# Altium schematic symbol library SMD Magnetics.SchLib: 30 symbols
Pins are listed as number, name and electrical type; pins without a type are passive.

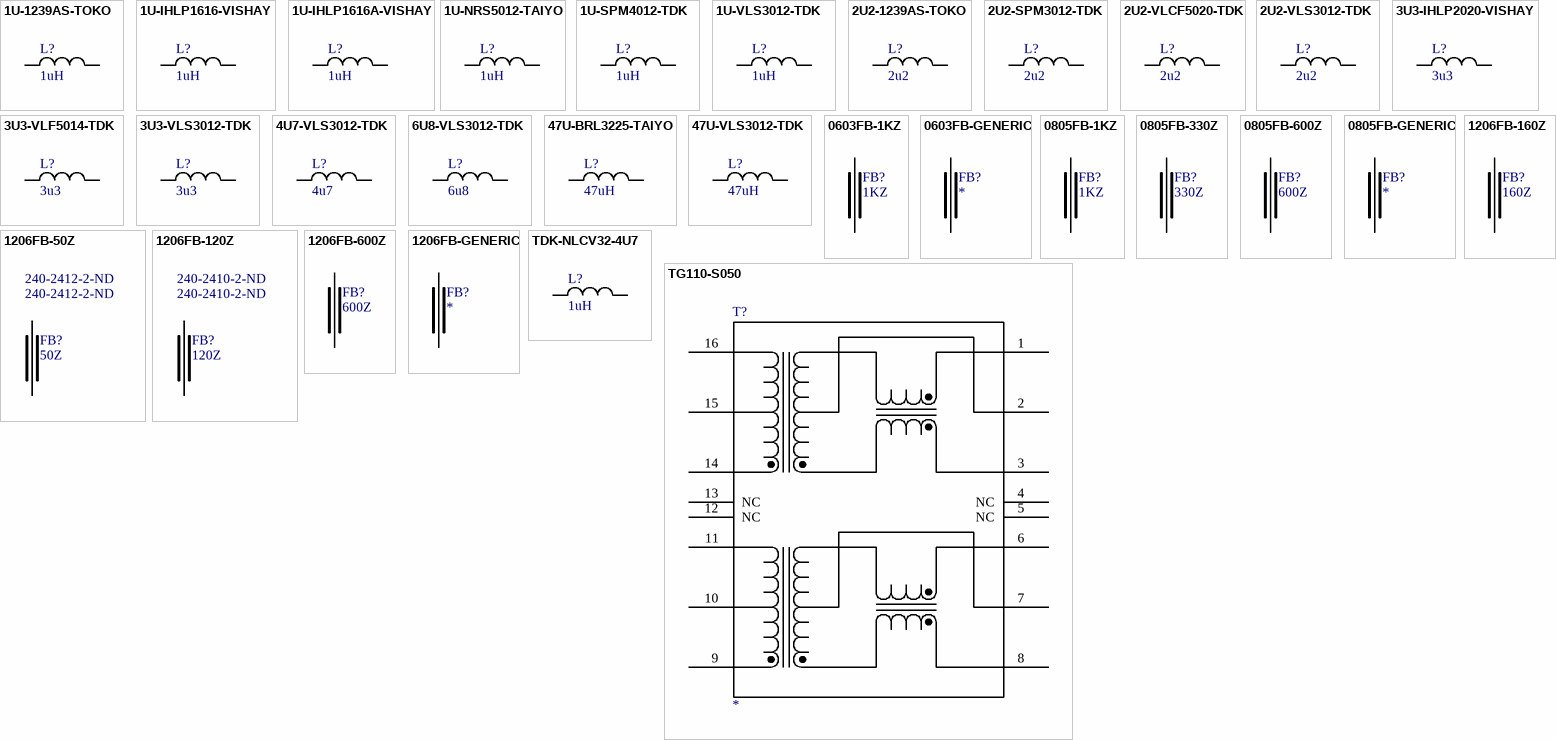
[diagram p0: symbols 1U-1239AS-TOKO to TG110-S050]

## 1U-1239AS-TOKO
designator L?, comment 1uH
1239AS-H-1R0N
footprint TOKO-DFE252012C-1U (TOKO INDUCTOR DFE252012 SERIES)
pins: 1, 2

## 1U-IHLP1616-VISHAY
designator L?, comment 1uH
1U-IHLP1616-VISHAY; Manufacturer Part Number: IHLP1616ABER1R0M01; Manufacturer: Vishay/Dale; Reel: L15; Description: INDUCTOR POWER 1.0UH 4.0A SMD; Supplier 1: Digi-Key; Supplier Part Number 1: 541-1043-2-ND
footprint VISHAY-IHLP1616-GENERIC
pins: 1, 2

## 1U-IHLP1616A-VISHAY
designator L?, comment 1uH
1U-IHLP1616A-VISHAY; Manufacturer Part Number: IHLP1616ABER1R0M11; Manufacturer: Vishay/Dale; Reel: L18; Description: INDUCTOR POWER 1.0UH 4.0A SMD; Supplier 1: Mouser; Supplier Part Number 1: 70-IHLP1616ABER1R0M1
footprint VISHAY-IHLP1616-GENERIC
pins: 1, 2

## 1U-NRS5012-TAIYO
designator L?, comment 1uH
1U-NRS5012
footprint TAIYO-NLS5012-GENERIC (TAIYO YUDEN NLS5012 BODY)
pins: 1, 2

## 1U-SPM4012-TDK
designator L?, comment 1uH
TDK-SPM4012-1U
footprint TDK-SPM4012T
pins: 1, 2

## 1U-VLS3012-TDK
designator L?, comment 1uH
TDK-VLS3012-1U; Manufacturer: TDK Corporation; Manufacturer Part Number: VLS3012T-1R0N2R2; Reel: L8; Description: INDUCTOR POWER 1.0UH 2.2A SMD; Supplier 1: Digi-Key; Supplier Part Number 1: 445-3682-2-ND
footprint TDK-VLS3012-1U
pins: 1, 2

## 2U2-1239AS-TOKO
designator L?, comment 2u2
1239AS-H-2R2N
footprint TOKO-DFE252012C-2U2 (TOKO INDUCTOR DFE252012 SERIES)
pins: 1, 2

## 2U2-SPM3012-TDK
designator L?, comment 2u2
TDK-SPM3012; Description: INDUCTOR POWER 2.2UH 2.1A SMD
footprint TDK-SPM3012T
pins: 1, 2

## 2U2-VLCF5020-TDK
designator L?, comment 2u2
TDK-VLCF5020-2U2; Manufacturer Part Number: VLS3012T-2R2M1R5; Manufacturer: TDK Corporation; Description: INDUCTOR POWER 2.2UH 1.5A SMD; Reel: L9; Supplier 1: Digi-Key; Supplier Part Number 1: 445-3684-2-ND
footprint TDK-VLCF5020-GENERIC
pins: 1, 2

## 2U2-VLS3012-TDK
designator L?, comment 2u2
TDK-VLS3012-2U2; Manufacturer Part Number: VLS3012T-2R2M1R5; Manufacturer: TDK Corporation; Description: INDUCTOR POWER 2.2UH 1.5A SMD; Reel: L9; Supplier 1: Digi-Key; Supplier Part Number 1: 445-3684-2-ND
footprint TDK-VLS3012-2U2
pins: 1, 2

## 3U3-IHLP2020-VISHAY
designator L?, comment 3u3
3U3 IHLP2020 VISHAY; Manufacturer Part Number: IHLP2020CZER3R3M11; Manufacturer: Vishay/Dale; Description: INDUCTOR POWER 3.3UH 5.5A SMD; Supplier 1: Digi-Key; Supplier Part Number 1: 541-1237-2-ND
footprint VISHAY-IHLP2020-GENERIC (Footprint not found)
pins: 1, 2

## 3U3-VLF5014-TDK
designator L?, comment 3u3
3U3 VLF5014 TDK; Reel: L17; Supplier 1: Digi-Key; Supplier Part Number 1: 445-4239-2-ND
footprint TDK-VLF5014-GENERIC
pins: 1, 2

## 3U3-VLS3012-TDK
designator L?, comment 3u3
TDK-VLS3012-3U3; Manufacturer Part Number: VLS3012T-3R3M1R3; Manufacturer: TDK Corporation; Reel: L10; Description: INDUCTOR POWER 3.3UH 1.3A SMD; Supplier 1: Digi-Key; Supplier Part Number 1: 445-3685-2-ND
footprint TDK-VLS3012-3U3 (Footprint not found)
pins: 1, 2

## 4U7-VLS3012-TDK
designator L?, comment 4u7
TDK-VLS3012-4u7; Manufacturer: TDK Corporation; Manufacturer Part Number: VLS3012T-4R7M1R0; Reel: L3; Description: INDUCTOR POWER 4.7UH 1.0A SMD; Supplier 1: Digi-Key; Supplier Part Number 1: 445-3686-6-ND
footprint TDK-VLS3012-4U7 (Footprint not found)
pins: 1, 2

## 6U8-VLS3012-TDK
designator L?, comment 6u8
TDK-VLS3012-6U8; Manufacturer: TDK Corporation; Manufacturer Part Number: VLS3012T-6R8MR90; Reel: L7; Description: INDUCTOR POWER 6.8UH .90A SMD; Supplier 1: Digi-Key; Supplier Part Number 1: 445-3687-2-ND
footprint TDK-VLS3012-6U8 (Footprint not found)
pins: 1, 2

## 47U-BRL3225-TAIYO
designator L?, comment 47uH
TY-BRL3225-47uH
footprint TAIYO-BRL3225-47U (TOKO INDUCTOR DFE252012 SERIES)
pins: 1, 2

## 47U-VLS3012-TDK
designator L?, comment 47uH
TDK-VLS3012-47uH; Manufacturer: TDK Corporation; Manufacturer Part Number: VLS3012T-470MR34; Reel: L6; Description: INDUCTOR POWER 47UH .34A SMD; Supplier 1: Digi-Key; Supplier Part Number 1: 445-3692-2-ND
footprint TDK-VLS3012-47U (Footprint not found)
pins: 1, 2

## 0603FB-1KZ
designator FB?, comment 1KZ
FERRITE BEAD 1000 OHM 400mA; Manufacturer: TDK Corporation; Manufacturer Part Number: MMZ1608R102A; Reel: F1; Description: FERRITE CHIP 1000 OHM 400MA 0603; Supplier 1: Digi-Key; Supplier Part Number 1: 445-1548-2-ND
footprint 0603FB-1KZ (Footprint not found)
pins: 1, 2

## 0603FB-GENERIC
designator FB?
FERRITE BEAD SMD
footprint 0603FB-GENERIC (Footprint not found)
pins: 1, 2

## 0805FB-1KZ
designator FB?, comment 1KZ
FERRITE BEAD 1000 OHM 6A; Reel: F3
footprint 0805FB-1KZ (Footprint not found)
pins: 1, 2

## 0805FB-330Z
designator FB?, comment 330Z
FERRITE BEAD 330 OHM 2.5A; Reel: F4
footprint 0805FB-330Z (Footprint not found)
pins: 1, 2

## 0805FB-600Z
designator FB?, comment 600Z
FERRITE BEAD 600 OHM 2A; Reel: F5
footprint 0805FB-600Z (Footprint not found)
pins: 1, 2

## 0805FB-GENERIC
designator FB?
FERRITE BEAD SMD
footprint 0805FB-GENERIC (Footprint not found)
pins: 1, 2

## 1206FB-50Z
designator FB?, comment 50Z  Supplier Part Number: 240-2412-2-ND
FERRITE BEAD 50 OHM 6A; Manufacturer: Laird-Signal Integrity Products; Manufacturer Part Number: HI1206T500R-10; Number of Lines: 1; Filter Type: Differential Mode - Single; Impedance @ Frequency: 50 Ohm @ 100MHz; DC Resistance (DCR): 10.00 mOhm Max; Description: FERRITE 6A 50 OHM 1206 SMD; Supplier: Digi-Key; Packaging: Tape & Reel (TR); Category: Filters; Current Rating: 6A; Package / Case: 1206 (3216 metric); RoHS: RoHS Compliant; Mounting Type: Surface Mount; Supplier 1: Digi-Key; Supplier Part Number 1: 240-2412-2-ND
footprint 1206FB-50Z
pins: 1, 2

## 1206FB-120Z
designator FB?, comment 120Z  Supplier Part Number: 240-2410-2-ND
FERRITE BEAD 120 OHM 4A; Manufacturer: Laird-Signal Integrity Products; Manufacturer Part Number: HI1206P121R-10; Number of Lines: 1; Filter Type: Differential Mode - Single; Impedance @ Frequency: 120 Ohm @ 100MHz; DC Resistance (DCR): 30.00 mOhm Max; Description: FERRITE CHIP 4A 120 OHM SMD; Supplier: Digi-Key; Packaging: Tape & Reel (TR); Category: Filters; Current Rating: 4A; Package / Case: 1206 (3216 metric); RoHS: RoHS Compliant; Mounting Type: Surface Mount; Supplier 1: Digi-Key; Supplier Part Number 1: 240-2410-2-ND
footprint 1206FB-120Z
pins: 1, 2

## 1206FB-160Z
designator FB?, comment 160Z
FERRITE BEAD 160 OHM 6A; Manufacturer Part Number: HI1206T161R-10; Manufacturer: Laird-Signal Integrity Products; Reel: F6; Description: FERRITE CHIP POWER 160 OHM SMD; Supplier 1: Digi-Key; Supplier Part Number 1: 240-2411-2-ND
footprint 1206FB-160Z (FERRITE BEAD 1206)
pins: 1, 2

## 1206FB-600Z
designator FB?, comment 600Z
FERRITE BEAD 600 OHM 500mA; Manufacturer: Laird-Signal Integrity Products; Manufacturer Part Number: HZ1206E601R-10; Number of Lines: 1; Filter Type: Differential Mode - Single; Impedance @ Frequency: 600 Ohm @ 100MHz; DC Resistance (DCR): 300.0 mOhm Max; Description: FERRITE 500MA 600 OHM 1206 SMD; Supplier 1: Digi-Key; Supplier: Digi-Key; Packaging: Cut Tape (CT); Category: Filters; Current Rating: 500mA; Package / Case: 1206 (3216 metric); RoHS: RoHS Compliant; Mounting Type: Surface Mount; Supplier Part Number 1: 240-2415-1-ND; Supplier Part Number: 240-2415-1-ND
footprint 1206FB-600Z
pins: 1, 2

## 1206FB-GENERIC
designator FB?
FERRITE BEAD 50 OHM 6A
footprint 1206FB-GENERIC
pins: 1, 2

## TDK-NLCV32-4U7
designator L?, comment 1uH
TDK-NLCV32-4U7; Supplier 1: Mouser; Supplier Part Number 1: 810-NLCV32T-4R7M-PFR
footprint 1210C-GENERIC
pins: 1, 2

## TG110-S050
designator T?
ETHERNET TX/RX TRANSFORMER
footprint TG110-S050
pins: 1, 2, 3, 4 NC, 5 NC, 6, 7, 8, 9, 10, 11, 12 NC, 13 NC, 14, 15, 16